# Altium schematic symbol library ExtPipe.SchLib: 1 symbol
Pins are listed as number, name and electrical type; pins without a type are passive.

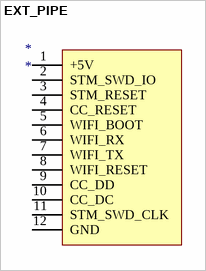
[diagram p0: symbol EXT_PIPE]

## EXT_PIPE
designator *
footprint EXTPIPE
pins: 1 +5V, 2 STM_SWD_IO, 3 STM_RESET, 4 CC_RESET, 5 WIFI_BOOT, 6 WIFI_RX, 7 WIFI_TX, 8 WIFI_RESET, 9 CC_DD, 10 CC_DC, 11 STM_SWD_CLK, 12 GND